# Altium footprint library TSSOP-5.PcbLib: 1 footprints
Each footprint in its own frame and in the unit in brackets; x right, y up, seen from the top. Pads: shape width x height; smd on the part's side, far side on the other; paste and mask are expansions set on the pad; w line width, h text height; cw(c..) or ccw(c..) is an arc to the next point about the centre after c.
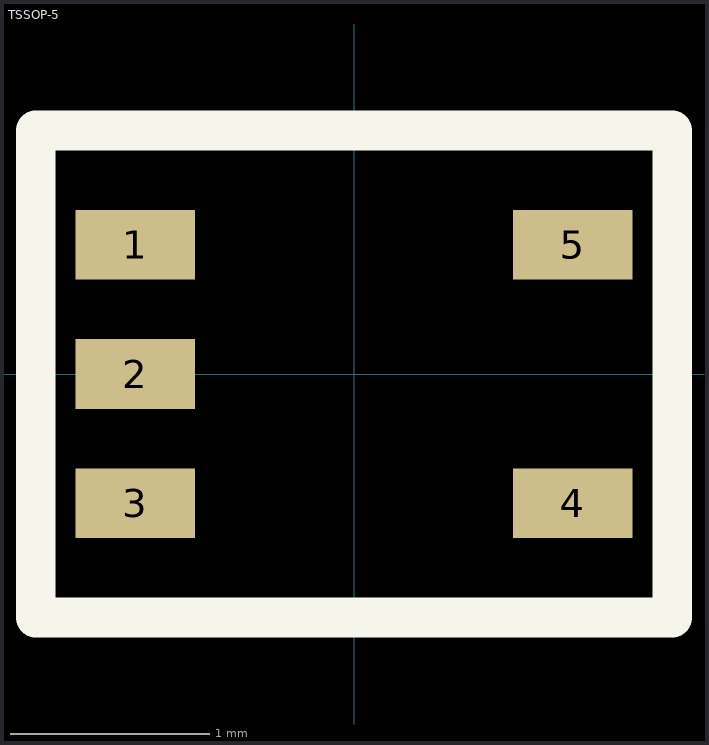
[diagram p0: the footprint, top view; thin cyan lines are the x and y axes]

## TSSOP-5 [mm]
pads (5):
  rect 0.6x0.35 smd: 1(-1.1,0.65) 2(-1.1,0) 3(-1.1,-0.65) 4(1.1,-0.65) 5(1.1,0.65)
Top Overlay:
  lines w0.2: -1.6,-1.225 1.6,-1.225 1.6,1.225 -1.6,1.225 -1.6,-1.225
Top Assembly:
  lines w0.1: -1.6,-1.225 1.6,-1.225 1.6,1.225 -1.6,1.225 -1.6,-1.225
  text "'.Designator'" at -0.925,-0.35 h0.7
3D body "User Library-TSSOP-5 (SOT-23-5 PITCH 0_65).STEP": height 1.1, standoff -0.01, extent -1.125,-1.125 1.125,1.125